# Altium integrated library Components.IntLib: 42 symbols
Pins are listed as number, name and electrical type; pins without a type are passive.

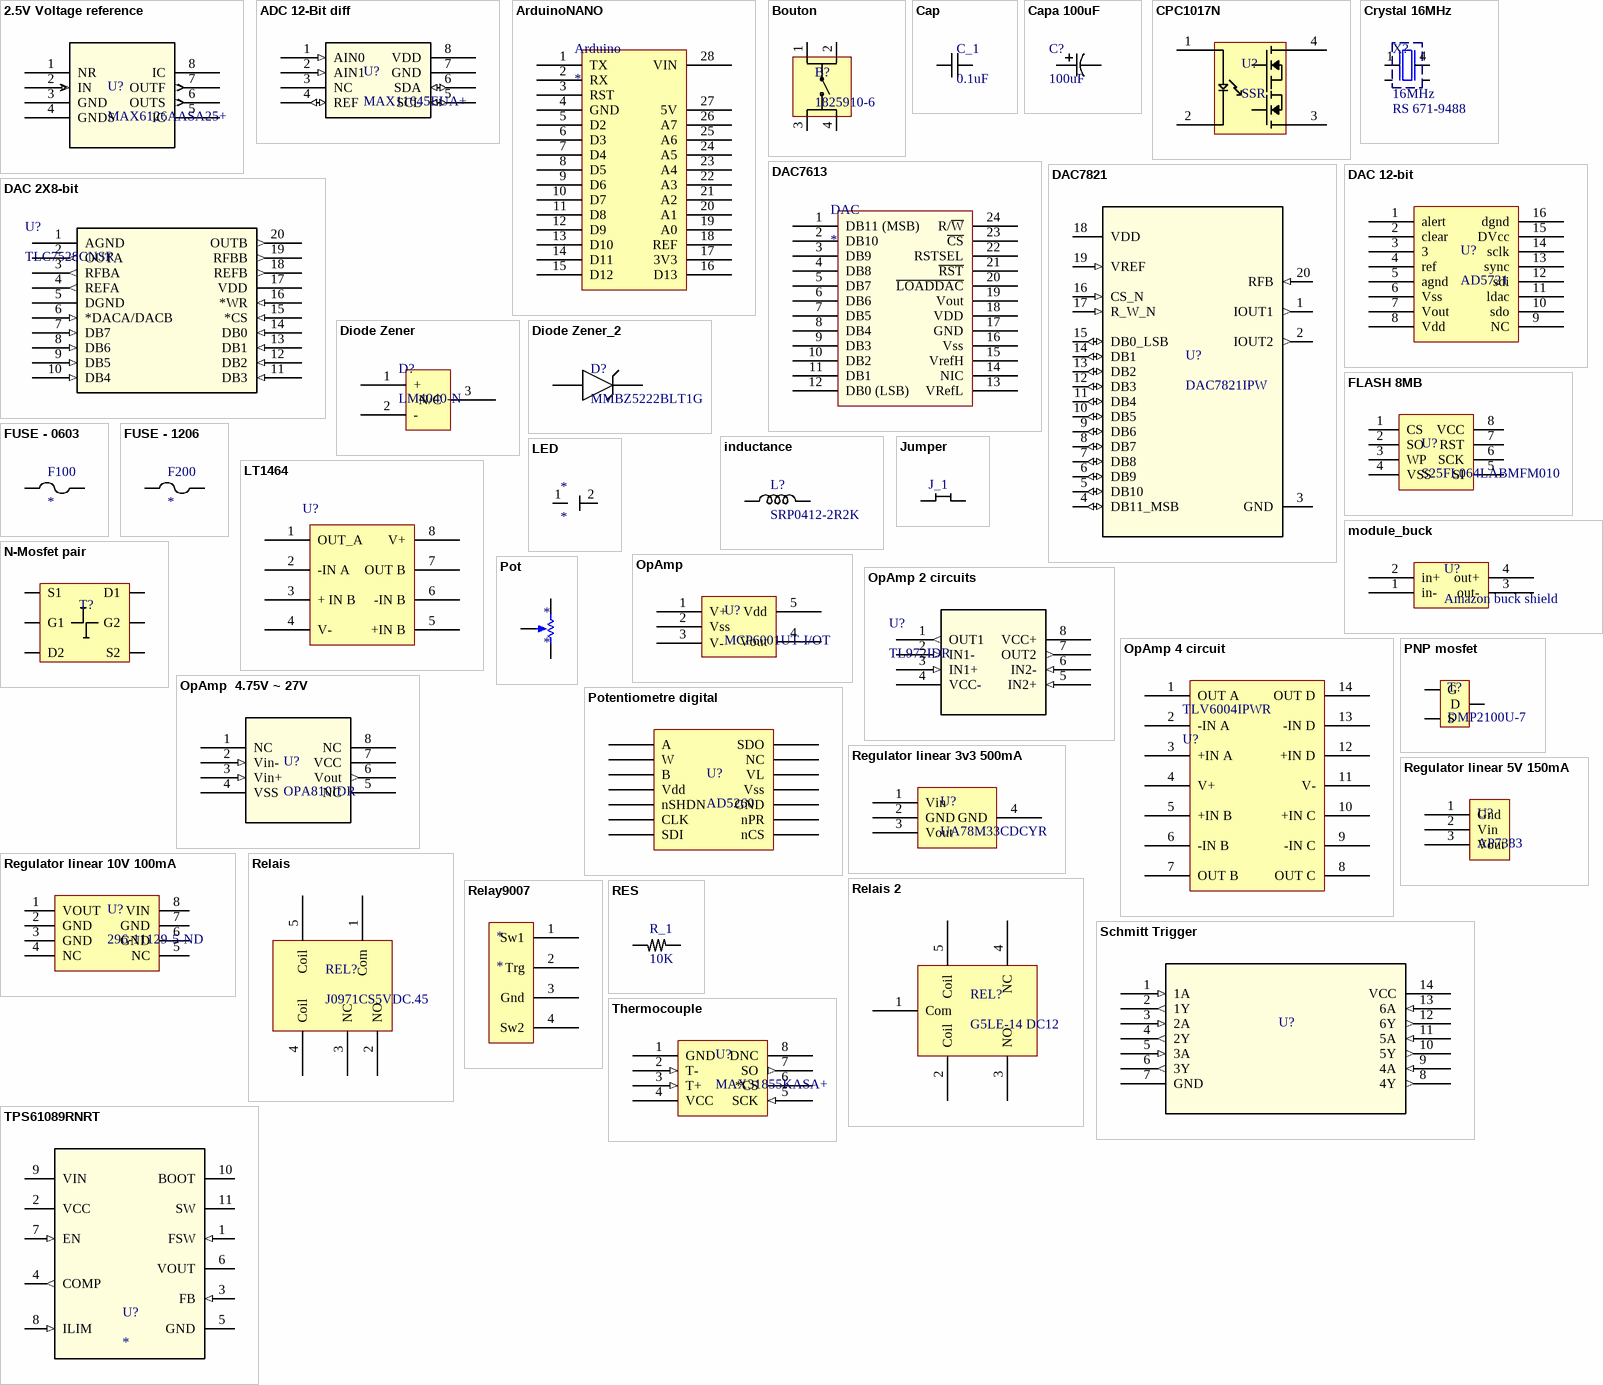
[diagram p0: symbols 2.5V Voltage reference to TPS61089RNRT]

## 2.5V Voltage reference
designator U?, comment MAX6126AASA25+
Vendor: Maxim Integrated Products; Built_By: EMA_UL_Team; SourceLibrary: Maxim_2011-10-27; Manufacturer_Part_Number: MAX6126AASA25+; Revision: 3; Copyright: Copyright (C) 2021 Accelerated Designs. All rights reserved; RefDes: RefDes; Type: DEV
footprint SOIC-8
pins: 1 NR, 2 IN (in), 3 GND (power), 4 GNDS (power), 5 IC, 6 OUTS (out), 7 OUTF (out), 8 IC

## ADC 12-Bit diff
designator U?, comment MAX11645EUA+
ADC 12-Bit diff / MAX11645EUA+ / Interface I2C; Vendor: Maxim Integrated Products; Built_By: EMA_UL_Team; SourceLibrary: Maxim_2014-05-21; Manufacturer_Part_Number: MAX11645EUA+; Revision: 2; Copyright: Copyright (C) 2021 Accelerated Designs. All rights reserved; RefDes: RefDes; Type: DEV
footprint TSSOP-8
pins: 1 AIN0 (in), 2 AIN1 (in), 3 NC, 4 REF (io), 5 SCL (io), 6 SDA (io), 7 GND (power), 8 VDD (power)

## ArduinoNANO
designator Arduino
footprint Arduino
footprint Arduino (SIMPLE)
pins: 1 TX, 2 RX, 3 RST, 4 GND, 5 D2, 6 D3, 7 D4, 8 D5, 9 D6, 10 D7, 11 D8, 12 D9, 13 D10, 14 D11, 15 D12, 16 D13, 17 3V3, 18 REF, 19 A0, 20 A1, 21 A2, 22 A3, 23 A4, 24 A5, 25 A6, 26 A7, 27 5V, 28 VIN

## Bouton
designator B?, comment 1825910-6
Tactile Bouton / 1825910-6
footprint Bouton
pins: 1, 2, 3, 4

## Cap
designator C_1, comment 0.1uF
footprint 0603-W (0603 - 1608)
footprint 1206
footprint 0805
pins: 1 Vin, 2 Vin

## Capa 100uF
designator C?, comment 100uF
100uF / Part number: 493-2203-1-ND; Manufacturer_Part_Number: UWT1V101MCL1GS; Vendor: Nichicon; Built_By: EMA_UL_Team; SourceLibrary: Nichicon_2011-10-21; Type: DEV; Copyright: Copyright (C) 2018 Accelerated Designs. All rights reserved; RefDes: RefDes
footprint 6.3x7.7_capa_smt
footprint 8mm diametre cap
pins: 1, 2

## CPC1017N
designator U?, comment SSR
Solid State SPST-NO _1 Form A_ 4-SOP _0.150, 3.81mm_; MP: CPC1017N; MF: IXYS Integrated; Package: SOP-4 IXYS; SnapEDA_Link: https://www.snapeda.com/parts/CPC1017N/IXYS%20Integrated%20Circuits%20Division/view-part/345722/?ref=snap; Value: *; Availability: Unavailable; Price: None
footprint 4-pin SOP
pins: 1 +CONTROL, 2 -CONTROL, 3 LOAD1, 4 LOAD2

## Crystal 16MHz
designator X?, comment value 16MHz  RS: RS 671-9488  (hidden comment: AB-16.000MALE-T)
AB-16.000MALE-T / # digikey : 887-1708-1-ND / 12pF; Manufacturer: Aker; Manufacturer Part #: C5S-16.000-12-3030-X; Frequency Stability: +/-30ppm; Creator: R Kanjee; Supplier: RS; RS Stock Nr.: 671-9488; HelpURL: http://za.rs-online.com/web/p/crystal-units/6719488/; Package: 3.2x5mm SMD; Load Capacitance: 12pF
footprint 4-SMD no lead 5mm-3.2mm
pins: 1, 2 Gnd (power), 3 Gnd (power), 4

## DAC7613
designator DAC
12-bit DAC Mid speed / 5V ouput / Voltage buffered / SPI Interface
footprint SSOP (DB) 24
pins: 1 DB11 (MSB), 2 DB10, 3 DB9, 4 DB8, 5 DB7, 6 DB6, 7 DB5, 8 DB4, 9 DB3, 10 DB2, 11 DB1, 12 DB0 (LSB), 13 VRefL, 14 NIC, 15 VrefH, 16 Vss, 17 GND, 18 VDD, 19 Vout, 20 ~{LOADDAC}, 21 ~{RST}, 22 RSTSEL, 23 ~{CS}, 24 R/~{W}

## DAC7821
designator U?, comment DAC7821IPW
12-bit high-speed DAC / DAC7821IPW / Parallel interface / Current - Unbuffered; PartNumber: DAC7821IPWR; Manufacturer: Texas Instruments; CompType: IC; PIN_COUNT: 20; Alternate_PartNumber: DAC7821IPW; PackageReference: PW0020A; MountType: SMT; RoHS: Y; RefDes: RefDes; Type: DEV; Value: Value; Copyright: Copyright (C) 2021 Accelerated Designs. All rights reserved
footprint TSSOP-20
pins: 1 IOUT1 (out), 2 IOUT2 (out), 3 GND (power), 4 DB11_MSB (io), 5 DB10 (io), 6 DB9 (io), 7 DB8 (io), 8 DB7 (io), 9 DB6 (io), 10 DB5 (io), 11 DB4 (io), 12 DB3 (io), 13 DB2 (io), 14 DB1 (io), 15 DB0_LSB (io), 16 CS_N (in), 17 R_W_N (in), 18 VDD (power), 19 VREF (in), 20 RFB (in)

## DAC 2X8-bit
designator U?, comment TLC7528CNSR
8-Bit, 0.1 us Dual MDAC, Parallel Input, Fast Control Signalling for DSP, Easy Micro I/F; Manufacturer: Texas Instruments; INDUSTRY_STD_PKG_TYPE: SO; FAMILY_NAME: PRECISION DAC (=<10MSPS); PIN_COUNT: 20; PACKAGE_DESIGNATOR: NS; Datasheet_URL: http://www.ti.com/lit/gpn/TLC7528; GENERIC_PART_NUMBER: TLC7528; Copyright: Copyright (C) 2018 Accelerated Designs. All rights reserved; RefDes: RefDes; Type: DEV
footprint SOIC-20
pins: 1 AGND (power), 2 OUTA (out), 3 RFBA (out), 4 REFA (out), 5 DGND (power), 6 *DACA/DACB (in), 7 DB7 (in), 8 DB6 (in), 9 DB5 (in), 10 DB4 (in), 11 DB3 (in), 12 DB2 (in), 13 DB1 (in), 14 DB0 (in), 15 *CS (in), 16 *WR (in), 17 VDD (power), 18 REFB (out), 19 RFBB (out), 20 OUTB (out)

## DAC 12-bit
designator U?, comment AD5721
AD5721BRUZ / 12 bit DAC mid speed / up to 20V output / Voltage buffered
footprint TSSOP-16
pins: 1 alert, 2 clear, 3, 4 ref, 5 agnd, 6 Vss, 7 Vout, 8 Vdd, 9 NC, 10 sdo, 11 ldac, 12 sdi, 13 sync, 14 sclk, 15 DVcc, 16 dgnd

## Diode Zener
designator D?, comment LM4040-N
Precision shunt voltage reference
footprint SOT-23 (DBZ) 3
pins: 1 +, 2 -, 3 N/C

## Diode Zener_2
designator D?, comment MMBZ5222BLT1G
2.5V nominal / MMBZ5222BLT1GOSCT-ND
footprint SOT-23 (DBZ) 3
pins: 1, 3

## FLASH 8MB
designator U?, comment S25FL064LABMFM010
#pièce : S25FL064LABMFM010 / #digikey : 428-4094-ND
footprint SOIC-8
pins: 1 CS, 2 SO, 3 WP, 4 VSS, 5 SI, 6 SCK, 7 RST, 8 VCC

## FUSE - 0603
designator F100
footprint 0603-W - F (0603 - 1608)
pins: 1 Vin, 2 Vout

## FUSE - 1206
designator F200
footprint 1206-W - F - duplicate (0603 - 1608)
pins: 1 Vin, 2 Vout

## inductance
designator L?, comment SRP0412-2R2K
part number SRP0412-2R2K / 2.2uH
footprint 4.1X4.2mm_inductor
footprint 9.5X8.5mm_inductor
pins: 1, 2

## Jumper
designator J_1  (value not drawn)
footprint 0603-N (0603mil - 1608mm)
pins: 1 Vin, 2 Vin

## LED
designator *
footprint LED
pins: 1 Vin, 2 Vout

## LT1464
designator U?, comment OA  (value not drawn)
SOIC-8
footprint LT1464 (SOIC-8)
pins: 1 OUT_A, 2 -IN A, 3 + IN B, 4 V-, 5 +IN B, 6 -IN B, 7 OUT B, 8 V+

## module_buck
designator U?, comment Amazon buck shield
footprint Shield_buck_converter
pins: 1 in-, 2 in+, 3 out-, 4 out+

## N-Mosfet pair
designator T?, comment SSM6N7002  (value not drawn)
N-Mosfet pair
footprint TSSOP-6 (N-Mosfet pair)
pins: 1 S1, 2 G1, 3 D2, 4 S2, 5 G2, 6 D1

## OpAmp
designator U?, comment MCP6001UT-I/OT
1 circuit OpAmp / MCP6001UT-I/OT
footprint SOT23-5
pins: 1 V+, 2 Vss, 3 V-, 4 Vout, 5 Vdd

## OpAmp 2 circuits
designator U?, comment TL972IDR
Output Rail-to-Rail Very-Low-Noise Operational Amplifier; GENERIC_PART_NUMBER: TL972; Vendor: Texas Instruments; PACKAGE_DESIGNATOR: D; PIN_COUNT: 8; FAMILY_NAME: STANDARD LINEAR AMPLIFIER; INDUSTRY_STD_PKG_TYPE: SOIC; Manufacturer_Part_Number: TL972IDR; Datasheet_URL: http://www.ti.com/lit/gpn/TL972; Manufacturer: Texas Instruments; Copyright: Copyright (C) 2018 Accelerated Designs. All rights reserved; RefDes: RefDes; Type: DEV
footprint SOIC-8
pins: 1 OUT1 (out), 2 IN1- (in), 3 IN1+ (in), 4 VCC- (power), 5 IN2+ (in), 6 IN2- (in), 7 OUT2 (out), 8 VCC+ (power)

## OpAmp 4 circuit
designator TLV6004IPWR, comment U?
OpAmp 4 circuit
footprint TSSOP-14
pins: 1 OUT A, 2 -IN A, 3 +IN A, 4 V+, 5 +IN B, 6 -IN B, 7 OUT B, 8 OUT C, 9 -IN C, 10 +IN C, 11 V-, 12 +IN D, 13 -IN D, 14 OUT D

## OpAmp  4.75V ~ 27V
designator U?, comment OPA810IDR
OPA810IDR / OpAmp Rail-to-Rail / 4.75V ~ 27V supply
footprint SOIC-8
pins: 1 NC, 2 Vin- (in), 3 Vin+ (in), 4 VSS (power), 5 NC, 6 Vout (out), 7 VCC (power), 8 NC

## PNP mosfet
designator T?, comment DMP2100U-7
P-Channel mosfet / DMP2100U-7
footprint SOT-23 (DBZ) 3
pins: 1 G, 2 S, 3 D

## Pot
designator *
footprint 3-Pos_Rect_Pot (Thru-Hole; 3 Leads)
pins: 1, 2, 3

## Potentiometre digital
designator U?, comment AD5260
AD5260BRUZ50
footprint TSSOP-14
pins: 1 A, 2 W, 3 B, 4 Vdd, 5 nSHDN, 6 CLK, 7 SDI, 8 nCS, 9 nPR, 10 GND, 11 Vss, 12 VL, 13 NC, 14 SDO

## Regulator linear 3v3 500mA
designator U?, comment UA78M33CDCYR
3.3V lin regulator / 500mA / UA78M33CDCYR
footprint SOT223-4
pins: 1 Vin, 2 GND, 3 Vout, 4 GND

## Regulator linear 5V 150mA
designator U?, comment AP7383
5V lin Regulator / 150mA / AP7383
footprint sot89-3
pins: 1 Gnd, 2 Vin, 3 Vout

## Regulator linear 10V 100mA
designator U?, comment 296-11129-5-ND
10V regulator / UA78L10ACD / 296-11129-5-ND
footprint SOIC-8
pins: 1 VOUT, 2 GND, 3 GND, 4 NC, 5 NC, 6 GND, 7 GND, 8 VIN

## Relais
designator REL?, comment J0971CS5VDC.45
J0971CS5VDC.45 / Relais 10A, coil 5V 90mA
footprint J0971CS5VDC.45 (5VDC)
pins: 1 Com, 2 NO, 3 NC, 4 Coil, 5 Coil

## Relais 2
designator REL?, comment G5LE-14 DC12
G5LE-14 DC12 / G5LE-14 DC5 / Relais 10A
footprint G5LE-14
pins: 1 Com, 2 Coil, 3 NO, 4 NC, 5 Coil

## Relay9007
designator *
footprint Relay
footprint COTO_9007
pins: 1 Sw1, 2 Trg, 3 Gnd, 4 Sw2

## RES
designator R_1, comment 10K
footprint 0603-W (0603 - 1608)
footprint 0805
pins: 1 Vin, 2 Vout

## Schmitt Trigger
designator U?, comment Part Number: SN7414DR  (value not drawn)
Schmitt Trigger / SN7414DR; Manufacturer: Texas Instruments; Built_By: EMA_UL_Team; Vendor: Texas Instruments; Manufacturer_Part_Number: SN7414DR; Copyright: Copyright (C) 2018 Accelerated Designs. All rights reserved; RefDes: RefDes; Type: DEV; Value: Value
footprint SOIC-14
pins: 1 1A (in), 2 1Y (out), 3 2A (in), 4 2Y (out), 5 3A (in), 6 3Y (out), 7 GND (power), 8 4Y (out), 9 4A (in), 10 5Y (out), 11 5A (in), 12 6Y (out), 13 6A (in), 14 VCC (power)

## Thermocouple
designator U?, comment MAX31855KASA+
# piece : MAX31855KASA+ / #digikey : / MAX31855KASA+-ND; Vendor: Maxim Integrated Products; Built_By: EMA_UL_Team; SourceLibrary: Maxim_2014-05-21; Manufacturer_Part_Number: MAX31855KASA+; Copyright: Copyright (C) 2018 Accelerated Designs. All rights reserved; RefDes: RefDes; Type: DEV
footprint SOIC-8
pins: 1 GND (power), 2 T- (in), 3 T+ (in), 4 VCC (power), 5 SCK (in), 6 *CS, 7 SO (out), 8 DNC

## TPS61089RNRT
designator U?
No Description Available; PartNumber: TPS61089RNRR; Manufacturer: Texas Instruments; RefDes: RefDes; Type: DEV; Value: Value; Copyright: Copyright (C) 2018 Accelerated Designs. All rights reserved
footprint RNR0011A
pins: 1 FSW (in), 2 VCC (power), 3 FB (in), 4 COMP (out), 5 GND (power), 6 VOUT (power), 7 EN (in), 8 ILIM (in), 9 VIN (power), 10 BOOT (power), 11 SW (power)

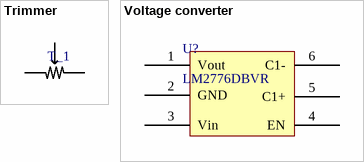
[diagram p1: symbols Trimmer to Voltage converter]

## Trimmer
designator T_1  (value not drawn)
footprint Trimmer (surface_mount)
pins: 1, 2, 3

## Voltage converter
designator U?, comment LM2776DBVR
footprint sot-23-6
pins: 1 Vout, 2 GND, 3 Vin, 4 EN, 5 C1+, 6 C1-